# Altium schematic symbol library Flash Pmod.SCHLIB: 4 symbols
Pins are listed as number, name and electrical type; pins without a type are passive.

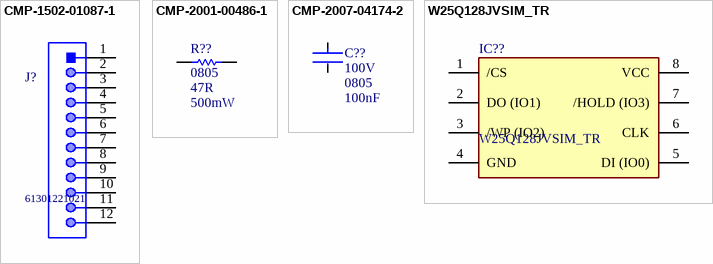
[diagram p0: symbols CMP-1502-01087-1 to W25Q128JVSIM_TR]

## CMP-1502-01087-1
designator J?, comment 61301221021
THT Angled Pin Header WR-PHD, Pitch 2.54 mm, Dual Row, 12 pins; Manufacturer: Wurth Elektronik; Manufacturer: Wurth Electronics; Pitch: 2.54mm; Gender: Male; Pin Number: 12; Working Voltage: 250VAC; Withstanding Voltage: 500VAC; Contact Resistance: 20mOhm; Rated Current: 3A; Voltage Rating: 250V; Datasheet URL: https://katalog.we-online.de/em/datasheet/6130xx21021.pdf; Orientation: Angled; Package Reference: 61301221021; Operating Temperature: -40to105degC; Part Number: 61301221021; Mounting Technology: THT; Row Number: Dual; Publisher: WurthElektronik; Packaging: Bag; Manufacturer URL: http://www.we-online.de; Supplier: Digi-Key; Supplier Part Number: 732-5354-ND; Manufacturer Part Number: 61301221021; RoHS: Yes; Category: Connectors; Stock: 2535; Pricing: 1=0,96, 10=0,817, 25=0,6812, 50=0,568, 100=0,516, 1000=0,469 (USD); Contact Plating: Gold; Contact Material: Copper Alloy,Copper; Contact Shape: Square; Contact Finish - Mating: GOLD; Insulation Material: Nylon; Insulation Color: Black; Min Operating Temperature: -40°C; Max Operating Temperature: 105°C; Number of Rows: 2; Number of Positions: 12; Termination: Solder; Number of Contacts: 12; Connector Type: Header; Fastening Type: Pull; Series: WR-PHD; Contact Type: Male Pin; RoHS Compliant: Yes; Flammability Rating: UL94 V-0; Reach SVHC Compliant: Unknown; ComponentLink1URL: http://www.farnell.com/cad/1737270.pdf?src-supplier=Element14; ComponentLink1Description: http://www.farnell.com/cad/1737270.pdf?src-supplier=Element14; ComponentLink2URL: https://katalog.we-online.de/em/datasheet/6130xx21021.pdf?src-supplier=Digi-Key; ComponentLink2Description: https://katalog.we-online.de/em/datasheet/6130xx21021.pdf?src-supplier=Digi-Key
footprint 61301221021 (Pin Header, pitch 2.54 mm, THT, Angled, dual row, 12p)
pins: 1, 2, 3, 4, 5, 6, 7, 8, 9, 10, 11, 12

## CMP-2001-00486-1
designator R??, comment value 47R  Case Code (Imperial): 0805  Power Rating: 500mW  (hidden comment: ERJ-P6WF47R0V)
47 Ohms ±1% 0.5W, 1/2W Chip Resistor 0805 (2012 Metric) Automotive AEC-Q200, Pulse Withstanding Thick Film; Manufacturer: Panasonic; Manufacturer Part Number: ERJ-P06J470V; Temperature Coefficient: 200ppm/°C; Voltage Rating: 150V; Supplier: Digi-Key; Supplier Part Number: P16869CT-ND; Manufacturer Part Number: ERJ-P6WF47R0V; RoHS: Yes; Category: Chip SMD Resistors; Stock: 32493; Pricing: 1=0,57, 10=0,438, 50=0,2474, 100=0,184, 500=0,13326, 1000=0,10153 (USD); Case/Package: 0805; Case Code (Metric): 2012; Min Operating Temperature: -55°C; Max Operating Temperature: 155°C; Tolerance: 1%; Packaging: Cut Tape; Series: ERJ; Number of Terminations: 2; Termination: Flat; Max Power Dissipation: 500mW; Voltage Rating (DC): 150V; Features: Automotive AEC-Q200; Resistor Type: Thick Film; Technology: THICK FILM; Resistance Tolerance: 1%; Length: 2mm; Height: 0.65mm; Depth: 1.25mm; Ratings: AEC-Q200; RoHS Compliant: Yes; Reach SVHC Compliant: No; ComponentLink1URL: https://datasheet.ciiva.com/48536/erjp-series-eng-tds-48536489.pdf?src-supplier=Distrelec; ComponentLink1Description: https://datasheet.ciiva.com/48536/erjp-series-eng-tds-48536489.pdf?src-supplier=Distrelec; ComponentLink2URL: https://datasheet.ciiva.com/6082/1790600-6082415.pdf?src-supplier=Farnell; ComponentLink2Description: https://datasheet.ciiva.com/6082/1790600-6082415.pdf?src-supplier=Farnell; ComponentLink3URL: https://datasheet.ciiva.com/7886/1790600-7886918.pdf?src-supplier=Element14; ComponentLink3Description: https://datasheet.ciiva.com/7886/1790600-7886918.pdf?src-supplier=Element14; ComponentLink4URL: https://datasheet.ciiva.com/48531/aoa0000ce4-48531642.pdf?src-supplier=Avnet; ComponentLink4Description: https://datasheet.ciiva.com/48531/aoa0000ce4-48531642.pdf?src-supplier=Avnet
footprint RESC2013X70X40LL20T20 (Chip Resistor, 2-Leads, Body 2.00x1.25mm, IPC High Density)
footprint RESC2013X70X40ML20T20 (Chip Resistor, 2-Leads, Body 2.00x1.25mm, IPC Low Density)
footprint RESC2013X70X40NL20T20 (Chip Resistor, 2-Leads, Body 2.00x1.25mm, IPC Medium Density)
pins: 1, 2
1 alternate drawing of the same symbol

## CMP-2007-04174-2
designator C??, comment Voltage Rating: 100V  Case Code (Imperial): 0805  Capacitance: 100nF  (hidden comment: 08051C104KAT2A)
General Purpose Ceramic Capacitor, 0805, 100nF, 10%, X7R, 15%, 100V; Manufacturer: Kyocera AVX; Packaging: Tape and Reel; Min Operating Temperature: -55°C; Dielectric Material: Ceramic; Height: 1.4mm; Termination: SMD/SMT; Case Code (Metric): 2012; Case/Package: 0805; Construction: Flat; Radiation Hardening: No; Series: -; Dielectric: X7R; Package Quantity: 2000; Mount: Surface Mount; Contact Plating: Tin; Voltage: 100V; Lead Free: Lead Free; Depth: 1.25mm; RoHS Compliant: Yes; Number of Pins: 2; Max Operating Temperature: 125°C; Length: 2.01mm; Voltage Rating (DC): 100V; Thickness: 0.055inch; REACH SVHC: No SVHC; Width: 0.049inch; Tolerance: 10%; Supplier: Digi-Key; Supplier Part Number: 478-5028-1-ND; Manufacturer Part Number: 08051C104KAT2A; RoHS: Yes; Category: Ceramic Capacitors; Stock: 469390; Pricing: 1=0,14, 10=0,103, 50=0,0584, 100=0,0483, 500=0,03388, 1000=0,02805 (USD); Mounting Technology: Surface Mount,PCB; Pins: 2; Value: 100nF; Reach SVHC Compliant: No
footprint FP-0805-L_2_01_0_2-W_1_25-IPC_B
footprint FP-0805-L_2_01_0_2-W_1_25-IPC_A
footprint FP-0805-L_2_01_0_2-W_1_25-MFG
footprint FP-0805-L_2_01_0_2-W_1_25-IPC_C
pins: 1, 2

## W25Q128JVSIM_TR
designator IC??
Integrated Circuit; Manufacturer_Name: Winbond; Manufacturer_Part_Number: W25Q128JVSIM TR; Datasheet Link: http://www.winbond.com/resource-files/w25q128jv%20dtr%20revb%2011042016.pdf; Height: 2.16mm; Mouser Part Number: 454-W25Q128JVSIMTR; Mouser Price/Stock: https://www.mouser.co.uk/ProductDetail/Winbond/W25Q128JVSIM-TR?qs=qSfuJ%252Bfl%2Fd6ji9IuruL6Zg%3D%3D; Arrow Part Number: W25Q128JVSIM TR; Arrow Price/Stock: https://www.arrow.com/en/products/w25q128jvsimtr/winbond-electronics?region=nac
footprint SOIC127P790X216-8N
pins: 1 /CS, 2 DO (IO1), 3 /WP (IO2), 4 GND, 5 DI (IO0), 6 CLK, 7 /HOLD (IO3), 8 VCC